# EAGLE library part TC65 (library gps-gsm)
GSM TC65 Siemens
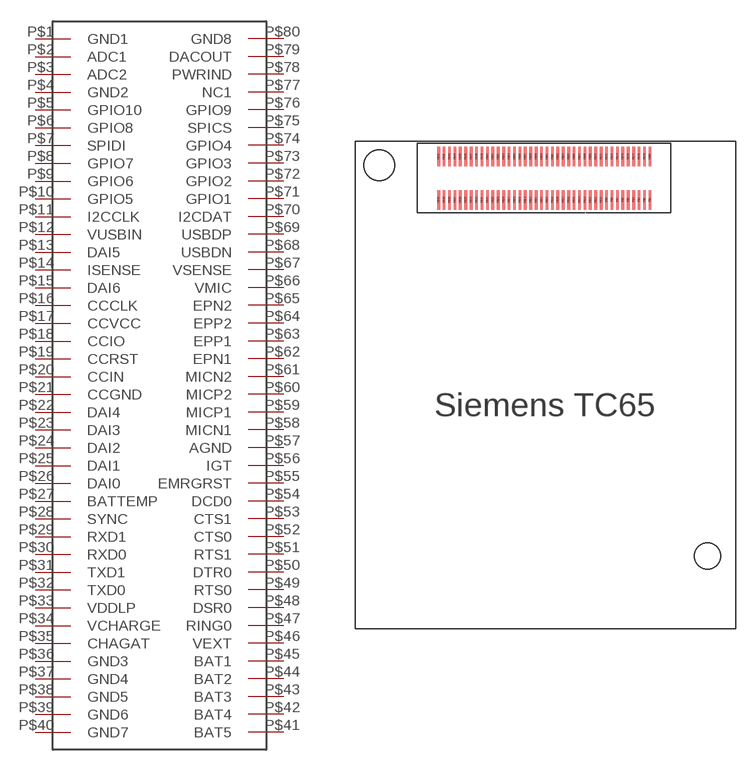
[diagram p20: symbol with the pads of TC65; footprint TC65]

Designator prefix GSM

## TC65  [TC65]
P$1  GND1
P$2  ADC1
P$3  ADC2
P$4  GND2
P$5  GPIO10
P$6  GPIO8
P$7  SPIDI
P$8  GPIO7
P$9  GPIO6
P$10  GPIO5
P$11  I2CCLK
P$12  VUSBIN
P$13  DAI5
P$14  ISENSE
P$15  DAI6
P$16  CCCLK
P$17  CCVCC
P$18  CCIO
P$19  CCRST
P$20  CCIN
P$21  CCGND
P$22  DAI4
P$23  DAI3
P$24  DAI2
P$25  DAI1
P$26  DAI0
P$27  BATTEMP
P$28  SYNC
P$29  RXD1
P$30  RXD0
P$31  TXD1
P$32  TXD0
P$33  VDDLP
P$34  VCHARGE
P$35  CHAGAT
P$36  GND3
P$37  GND4
P$38  GND5
P$39  GND6
P$40  GND7
P$41  BAT5
P$42  BAT4
P$43  BAT3
P$44  BAT2
P$45  BAT1
P$46  VEXT
P$47  RING0
P$48  DSR0
P$49  RTS0
P$50  DTR0
P$51  RTS1
P$52  CTS0
P$53  CTS1
P$54  DCD0
P$55  EMRGRST
P$56  IGT
P$57  AGND
P$58  MICN1
P$59  MICP1
P$60  MICP2
P$61  MICN2
P$62  EPN1
P$63  EPP1
P$64  EPP2
P$65  EPN2
P$66  VMIC
P$67  VSENSE
P$68  USBDN
P$69  USBDP
P$70  I2CDAT
P$71  GPIO1
P$72  GPIO2
P$73  GPIO3
P$74  GPIO4
P$75  SPICS
P$76  GPIO9
P$77  NC1
P$78  PWRIND
P$79  DACOUT
P$80  GND8

## Footprint TC65 (pad centres in mm)
smd 0.25 x 1.8: P$1 4.1,1.5; P$2 3.6,1.5; P$3 3.1,1.5; P$4 2.6,1.5; P$5 2.1,1.5; P$6 1.6,1.5; P$7 1.1,1.5; P$8 0.6,1.5; P$9 0.1,1.5; P$10 -0.4,1.5; P$11 -0.9,1.5; P$12 -1.4,1.5; P$13 -1.9,1.5; P$14 -2.4,1.5; P$15 -2.9,1.5; P$16 -3.4,1.5; P$17 -3.9,1.5; P$18 -4.4,1.5; P$19 -4.9,1.5; P$20 -5.4,1.5; P$21 -5.9,1.5; P$22 -6.4,1.5; P$23 -6.9,1.5; P$24 -7.4,1.5; P$25 -7.9,1.5; P$26 -8.4,1.5; P$27 -8.9,1.5; P$28 -9.4,1.5; P$29 -9.9,1.5; P$30 -10.4,1.5; P$31 -10.9,1.5; P$32 -11.4,1.5; P$33 -11.9,1.5; P$34 -12.4,1.5; P$35 -12.9,1.5; P$36 -13.4,1.5; P$37 -13.9,1.5; P$38 -14.4,1.5; P$39 -14.9,1.5; P$40 -15.4,1.5; P$41 -15.4,5.5; P$42 -14.9,5.5; P$43 -14.4,5.5; P$44 -13.9,5.5; P$45 -13.4,5.5; P$46 -12.9,5.5; P$47 -12.4,5.5; P$48 -11.9,5.5; P$49 -11.4,5.5; P$50 -10.9,5.5; P$51 -10.4,5.5; P$52 -9.9,5.5; P$53 -9.4,5.5; P$54 -8.9,5.5; P$55 -8.4,5.5; P$56 -7.9,5.5; P$57 -7.4,5.5; P$58 -6.9,5.5; P$59 -6.4,5.5; P$60 -5.9,5.5; P$61 -5.4,5.5; P$62 -4.9,5.5; P$63 -4.4,5.5; P$64 -3.9,5.5; P$65 -3.4,5.5; P$66 -2.9,5.5; P$67 -2.4,5.5; P$68 -1.9,5.5; P$69 -1.4,5.5; P$70 -0.9,5.5; P$71 -0.4,5.5; P$72 0.1,5.5; P$73 0.6,5.5; P$74 1.1,5.5; P$75 1.6,5.5; P$76 2.1,5.5; P$77 2.6,5.5; P$78 3.1,5.5; P$79 3.6,5.5; P$80 4.1,5.5